# Altium footprint library ACT45L.PcbLib: 1 footprints
Each footprint in its own frame and in the unit in brackets; x right, y up, seen from the top. Pads: shape width x height; smd on the part's side, far side on the other; paste and mask are expansions set on the pad; w line width, h text height; cw(c..) or ccw(c..) is an arc to the next point about the centre after c.
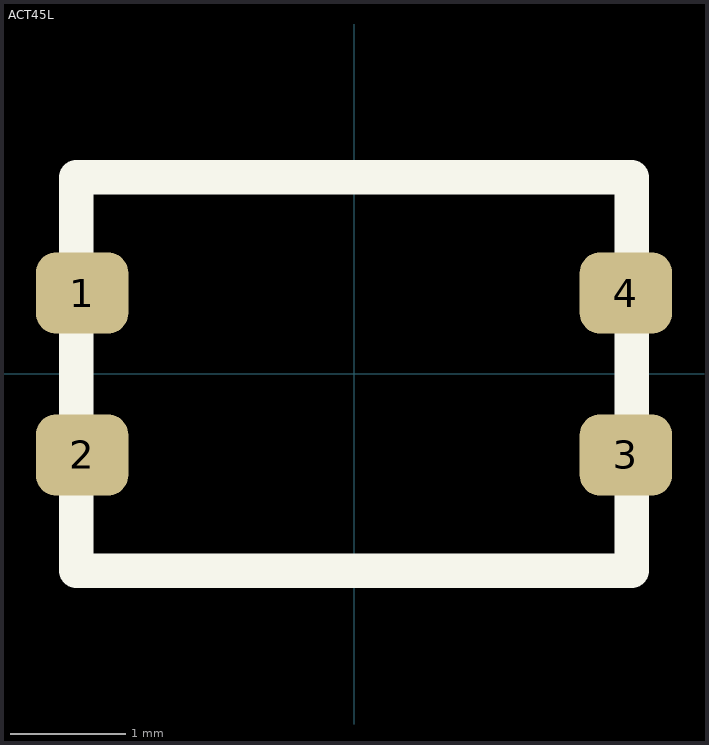
[diagram p0: the footprint, top view; thin cyan lines are the x and y axes]

## ACT45L [mm] "TDK EMC Components"
height 2.8
pads (4):
  rrect50% 0.8x0.7 smd: 1(-2.35,0.7) 2(-2.35,-0.7) 3(2.35,-0.7) 4(2.35,0.7)
Top Overlay:
  lines w0.3: -2.4,-1.7 -2.4,1.7 2.4,1.7 2.4,-1.7 -2.4,-1.7
3D body: height 3.2, standoff 0, extent -2.5,-1.75 2.5,1.75